# Altium schematic symbol library Schlib1.SchLib: 1 symbol
Pins are listed as number, name and electrical type; pins without a type are passive.

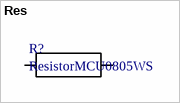
[diagram p0: symbol Res]

## Res
designator R?, comment ResistorMCU0805WS
footprint ResMCU0805WS
pins: 1, 2